# EAGLE library part MP1475DJ-LF-P (library MP1475DJ-LF-P)
Switching Voltage Regulators 3A, 16V, 500kHz Sync, Stp-Dwn Cnvrtr Source: Datasheet <https://www.monolithicpower.com/en/documentview/productdocument/index/version/2/document_type/Datasheet/lang/en/sku/MP1475/document_id/342>
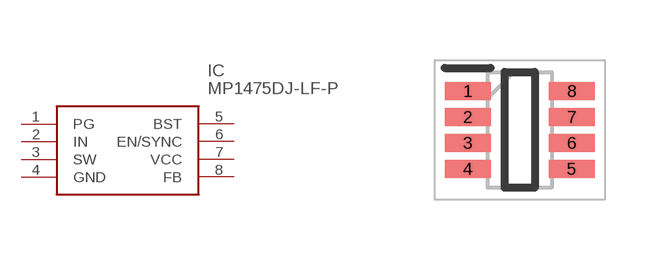
[diagram p0: symbol with the pads of SOT65P280X100-8N; footprint SOT65P280X100-8N]

Designator prefix IC

## MP1475DJ-LF-P (Description: Switching Voltage Regulators 3A, 16V, 500kHz Sync, Stp-Dwn Cnvrtr; Height: 1mm; Manufacturer_Name: Monolithic Power Systems (MPS); Manufacturer_Part_Number: MP1475DJ-LF-P; Mouser_Part_Number: 946-MP1475DJLFP; Mouser_Price-Stock: https://www.mouser.co.uk/ProductDetail/Monolithic-Power-Systems-MPS/MP1475DJ-LF-P?qs=Iq7RKQRjpgoaxnjiXuhBAA%3D%3D)  [SOT65P280X100-8N]
1  PG
2  IN
3  SW
4  GND
5  BST
6  EN/SYNC
7  VCC
8  FB

## Footprint SOT65P280X100-8N (pad centres in mm)
TSOT23-8
smd 1.15 x 0.45: 1 -1.3,0.975; 2 -1.3,0.325; 3 -1.3,-0.325; 4 -1.3,-0.975; 5 1.3,-0.975; 6 1.3,-0.325; 7 1.3,0.325; 8 1.3,0.975